# Altium footprint library 691 311 500 0xx.PcbLib: 23 footprints (part 1 of 2)
Each footprint in its own frame and in the unit in brackets; x right, y up, seen from the top. Pads: shape width x height; smd on the part's side, far side on the other; paste and mask are expansions set on the pad; w line width, h text height; cw(c..) or ccw(c..) is an arc to the next point about the centre after c.
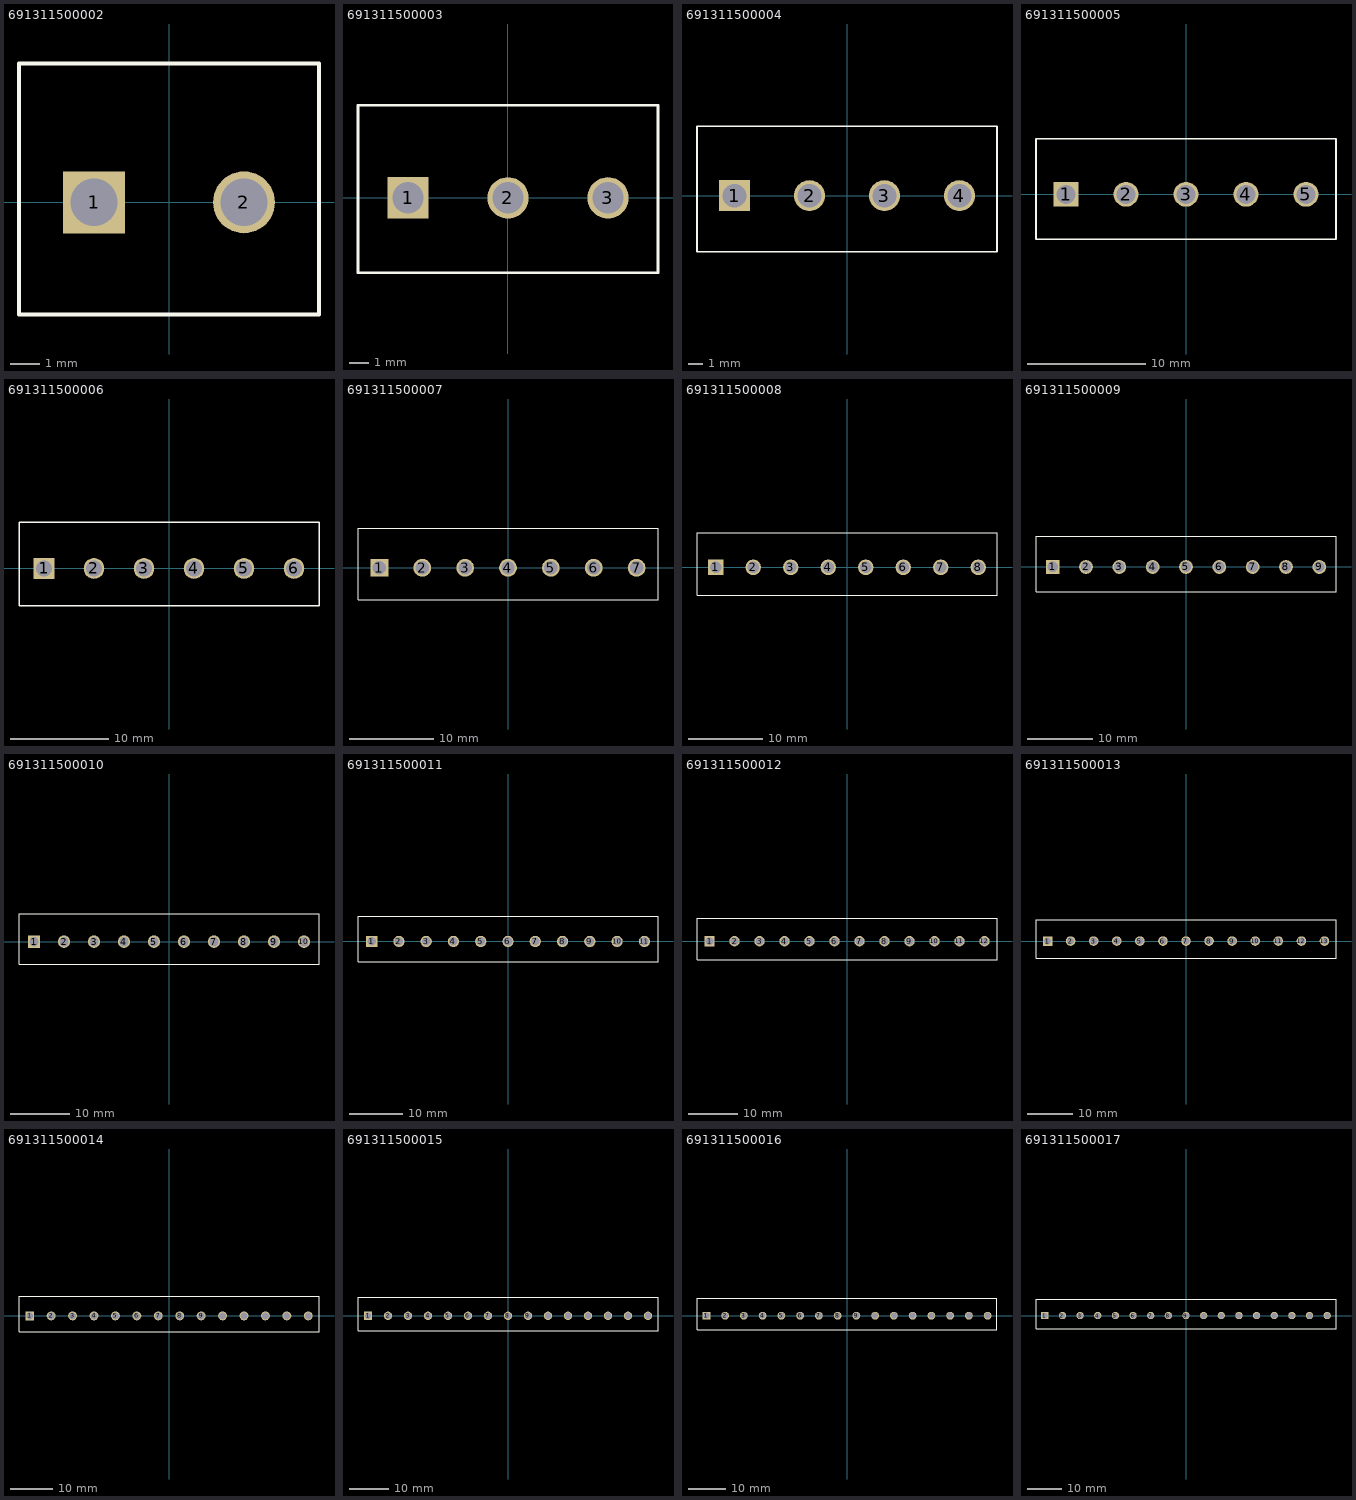
[diagram p0: the footprints below, top view; thin cyan lines are the x and y axes]

## 691311500002 [mm] "5,08mm - PCB Headers - Vertical - Opened ends -02p"
height 12
pads (2):
  rect 2.1x2.1 hole 1.6: 1(-2.54,0)
  round 2.1 hole 1.6: 2(2.54,0)
Top Overlay:
  lines w0.127: -5.08,-3.8 -5.08,4.7 5.08,4.7 5.08,-3.8 -5.08,-3.8
3D body: height 12.01, standoff -3.99, extent -5.08,-3.8 5.08,4.7

## 691311500003 [mm] "5,08mm - PCB Headers - Vertical - Opened ends -03p"
height 12
pads (3):
  rect 2.1x2.1 hole 1.6: 1(-5.08,0)
  round 2.1 hole 1.6: 2(0,0) 3(5.08,0)
Top Overlay:
  lines w0.127: -7.62,-3.8 7.62,-3.8 7.62,4.7 -7.62,4.7 -7.62,-3.8
3D body: height 12.01, standoff -3.99, extent -7.62,-3.8 7.62,4.7

## 691311500004 [mm] "5,08mm - PCB Headers - Vertical - Opened ends -04p"
height 12
pads (4):
  rect 2.1x2.1 hole 1.6: 1(-7.62,0)
  round 2.1 hole 1.6: 2(-2.54,0) 3(2.54,0) 4(7.62,0)
Top Overlay:
  lines w0.127: -10.16,-3.8 10.16,-3.8 10.16,4.7 -10.16,4.7 -10.16,-3.8
3D body: height 12.01, standoff -3.99, extent -10.16,-3.8 10.16,4.7

## 691311500005 [mm] "5,08mm - PCB Headers - Vertical - Opened ends -05p"
height 12
pads (5):
  rect 2.1x2.1 hole 1.6: 1(-10.16,0)
  round 2.1 hole 1.6: 2(-5.08,0) 3(0,0) 4(5.08,0) 5(10.16,0)
Top Overlay:
  lines w0.127: -12.7,-3.8 12.7,-3.8 12.7,4.7 -12.7,4.7 -12.7,-3.8
3D body: height 12.01, standoff -3.99, extent -12.7,-3.8 12.7,4.7

## 691311500006 [mm] "5,08mm - PCB Headers - Vertical - Opened ends -06p"
height 12
pads (6):
  rect 2.1x2.1 hole 1.6: 1(-12.7,0)
  round 2.1 hole 1.6: 2(-7.62,0) 3(-2.54,0) 4(2.54,0) 5(7.62,0) 6(12.7,0)
Top Overlay:
  lines w0.127: -15.24,-3.8 15.24,-3.8 15.24,4.7 -15.24,4.7 -15.24,-3.8
3D body: height 12.01, standoff -3.99, extent -15.24,-3.8 15.24,4.7

## 691311500007 [mm] "5,08mm - PCB Headers - Vertical - Opened ends -07p"
height 12
pads (7):
  rect 2.1x2.1 hole 1.6: 1(-15.24,0)
  round 2.1 hole 1.6: 2(-10.16,0) 3(-5.08,0) 4(0,0) 5(5.08,0) 6(10.16,0) 7(15.24,0)
Top Overlay:
  lines w0.127: -17.78,-3.8 17.78,-3.8 17.78,4.7 -17.78,4.7 -17.78,-3.8
3D body: height 12.01, standoff -3.99, extent -17.78,-3.8 17.78,4.7

## 691311500008 [mm] "5,08mm - PCB Headers - Vertical - Opened ends -08p"
height 12
pads (8):
  rect 2.1x2.1 hole 1.6: 1(-17.78,0)
  round 2.1 hole 1.6: 2(-12.7,0) 3(-7.62,0) 4(-2.54,0) 5(2.54,0) 6(7.62,0) 7(12.7,0) 8(17.78,0)
Top Overlay:
  lines w0.127: -20.32,-3.8 20.32,-3.8 20.32,4.7 -20.32,4.7 -20.32,-3.8
3D body: height 12.01, standoff -3.99, extent -20.32,-3.8 20.32,4.7

## 691311500009 [mm] "5,08mm - PCB Headers - Vertical - Opened ends -09p"
height 12
pads (9):
  rect 2.1x2.1 hole 1.6: 1(-20.32,0)
  round 2.1 hole 1.6: 2(-15.24,0) 3(-10.16,0) 4(-5.08,0) 5(0,0) 6(5.08,0) 7(10.16,0) 8(15.24,0) 9(20.32,0)
Top Overlay:
  lines w0.127: -22.86,-3.8 22.86,-3.8 22.86,4.7 -22.86,4.7 -22.86,-3.8
3D body: height 12.01, standoff -3.99, extent -22.86,-3.8 22.86,4.7

## 691311500010 [mm] "5,08mm - PCB Headers - Vertical - Opened ends -10p"
height 12
pads (10):
  rect 2.1x2.1 hole 1.6: 1(-22.86,0)
  round 2.1 hole 1.6: 2(-17.78,0) 3(-12.7,0) 4(-7.62,0) 5(-2.54,0) 6(2.54,0) 7(7.62,0) 8(12.7,0) 9(17.78,0) 10(22.86,0)
Top Overlay:
  lines w0.127: -25.4,-3.8 25.4,-3.8 25.4,4.7 -25.4,4.7 -25.4,-3.8
3D body: height 12.01, standoff -3.99, extent -25.4,-3.8 25.4,4.7

## 691311500011 [mm] "5,08mm - PCB Headers - Vertical - Opened ends -11p"
height 12
pads (11):
  rect 2.1x2.1 hole 1.6: 1(-25.4,0)
  round 2.1 hole 1.6: 2(-20.32,0) 3(-15.24,0) 4(-10.16,0) 5(-5.08,0) 6(0,0) 7(5.08,0) 8(10.16,0) 9(15.24,0) 10(20.32,0) 11(25.4,0)
Top Overlay:
  lines w0.127: -27.94,-3.8 27.94,-3.8 27.94,4.7 -27.94,4.7 -27.94,-3.8
3D body: height 12.01, standoff -3.99, extent -27.94,-3.8 27.94,4.7

## 691311500012 [mm] "5,08mm - PCB Headers - Vertical - Opened ends -12p"
height 12
pads (12):
  rect 2.1x2.1 hole 1.6: 1(-27.94,0)
  round 2.1 hole 1.6: 2(-22.86,0) 3(-17.78,0) 4(-12.7,0) 5(-7.62,0) 6(-2.54,0) 7(2.54,0) 8(7.62,0) 9(12.7,0) 10(17.78,0) 11(22.86,0) 12(27.94,0)
Top Overlay:
  lines w0.127: -30.48,-3.8 30.48,-3.8 30.48,4.7 -30.48,4.7 -30.48,-3.8
3D body: height 12.01, standoff -3.99, extent -30.48,-3.8 30.48,4.7

## 691311500013 [mm] "5,08mm - PCB Headers - Vertical - Opened ends -13p"
height 12
pads (13):
  rect 2.1x2.1 hole 1.6: 1(-30.48,0)
  round 2.1 hole 1.6: 2(-25.4,0) 3(-20.32,0) 4(-15.24,0) 5(-10.16,0) 6(-5.08,0) 7(0,0) 8(5.08,0) 9(10.16,0) 10(15.24,0) 11(20.32,0) 12(25.4,0) 13(30.48,0)
Top Overlay:
  lines w0.127: -33.02,-3.8 -33.02,4.7 33.02,4.7 33.02,-3.8 -33.02,-3.8
3D body: height 12.01, standoff -3.99, extent -33.02,-3.8 33.02,4.7

## 691311500014 [mm] "5,08mm - PCB Headers - Vertical - Opened ends -14p"
height 12
pads (14):
  rect 2.1x2.1 hole 1.6: 1(-33.02,0)
  round 2.1 hole 1.6: 2(-27.94,0) 3(-22.86,0) 4(-17.78,0) 5(-12.7,0) 6(-7.62,0) 7(-2.54,0) 8(2.54,0) 9(7.62,0) 10(12.7,0) 11(17.78,0) 12(22.86,0) 13(27.94,0) 14(33.02,0)
Top Overlay:
  lines w0.127: -35.56,-3.8 35.56,-3.8 35.56,4.7 -35.56,4.7 -35.56,-3.8
3D body: height 12.01, standoff -3.99, extent -35.56,-3.8 35.56,4.7

## 691311500015 [mm] "5,08mm - PCB Headers - Vertical - Opened ends -15p"
height 12
pads (15):
  rect 2.1x2.1 hole 1.6: 1(-35.56,0)
  round 2.1 hole 1.6: 2(-30.48,0) 3(-25.4,0) 4(-20.32,0) 5(-15.24,0) 6(-10.16,0) 7(-5.08,0) 8(0,0) 9(5.08,0) 10(10.16,0) 11(15.24,0) 12(20.32,0) 13(25.4,0) 14(30.48,0) 15(35.56,0)
Top Overlay:
  lines w0.127: -38.1,-3.8 38.1,-3.8 38.1,4.7 -38.1,4.7 -38.1,-3.8
3D body: height 12.01, standoff -3.99, extent -38.1,-3.8 38.1,4.7

## 691311500016 [mm] "5,08mm - PCB Headers - Vertical - Opened ends -16p"
height 12
pads (16):
  rect 2.1x2.1 hole 1.6: 1(-38.1,0)
  round 2.1 hole 1.6: 2(-33.02,0) 3(-27.94,0) 4(-22.86,0) 5(-17.78,0) 6(-12.7,0) 7(-7.62,0) 8(-2.54,0) 9(2.54,0) 10(7.62,0) 11(12.7,0) 12(17.78,0) 13(22.86,0) 14(27.94,0) 15(33.02,0) 16(38.1,0)
Top Overlay:
  lines w0.127: -40.64,-3.8 40.64,-3.8 40.64,4.7 -40.64,4.7 -40.64,-3.8
3D body: height 12.01, standoff -3.99, extent -40.64,-3.8 40.64,4.7

## 691311500017 [mm] "5,08mm - PCB Headers - Vertical - Opened ends -17p"
height 12
pads (17):
  rect 2.1x2.1 hole 1.6: 1(-40.64,0)
  round 2.1 hole 1.6: 2(-35.56,0) 3(-30.48,0) 4(-25.4,0) 5(-20.32,0) 6(-15.24,0) 7(-10.16,0) 8(-5.08,0) 9(0,0) 10(5.08,0) 11(10.16,0) 12(15.24,0) 13(20.32,0) 14(25.4,0) 15(30.48,0) 16(35.56,0) 17(40.64,0)
Top Overlay:
  lines w0.127: -43.18,-3.8 43.18,-3.8 43.18,4.7 -43.18,4.7 -43.18,-3.8
3D body: height 12.01, standoff -3.99, extent -43.18,-3.8 43.18,4.7